# Altium schematic symbol library Transformer.SchLib: 3 symbols
Pins are listed as number, name and electrical type; pins without a type are passive.

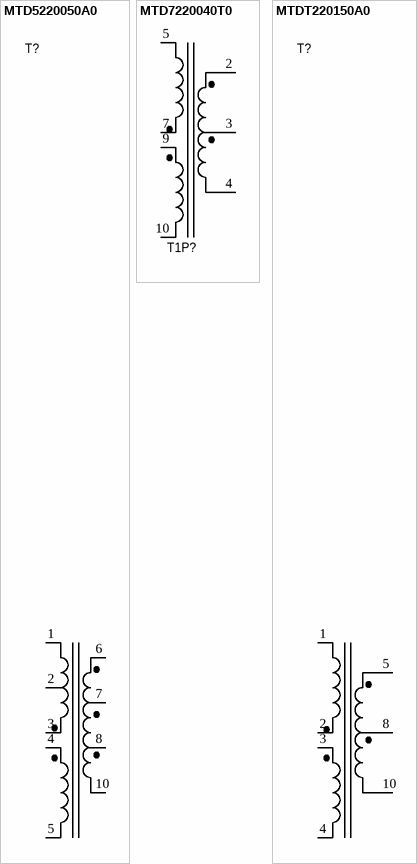
[diagram p0: symbols MTD5220050A0 to MTDT220150A0]

## MTD5220050A0
designator T?, comment Transformer  (value not drawn)
Transformer EE13 GREENBOX 16A Auxiliary Power; Manufacturer: *; MountType: DIP; PackageDescription: *; PackageReference: EE13; Published: 1-Jun-2017; Publisher: GreenBox; TemperatureRange: *; VenderID: *
footprint EE13-5+5-Q9
pins: 1, 2, 3, 4, 5, 6, 7, 8, 10

## MTD7220040T0
designator T1P?, comment Transformer  (value not drawn)
Transformer EE19-4+6 G32P-UL-PVT; Publisher: GreenBox; MountType: DIP; PackageReference: EE19-4+6; Published: 1-Jun-2017; TemperatureRange: *; Manufacturer: *; PackageDescription: *; VenderID: *
footprint EE19-4+6-1
pins: 2, 3, 4, 5, 7, 9, 10

## MTDT220150A0
designator T?, comment Transformer  (value not drawn)
Transformer EE19-4+6 GREEN BOX 32A Auxiliary Power; Manufacturer: *; MountType: DIP; PackageDescription: *; PackageReference: EE19-4+6; Published: 1-Jun-2017; Publisher: GreenBox; TemperatureRange: *; VenderID: *
footprint EE19-4+6-1
pins: 1, 2, 3, 4, 5, 8, 10